# Altium footprint library 2171790001.PcbLib: 1 footprints
Each footprint in its own frame and in the unit in brackets; x right, y up, seen from the top. Pads: shape width x height; smd on the part's side, far side on the other; paste and mask are expansions set on the pad; w line width, h text height; cw(c..) or ccw(c..) is an arc to the next point about the centre after c.
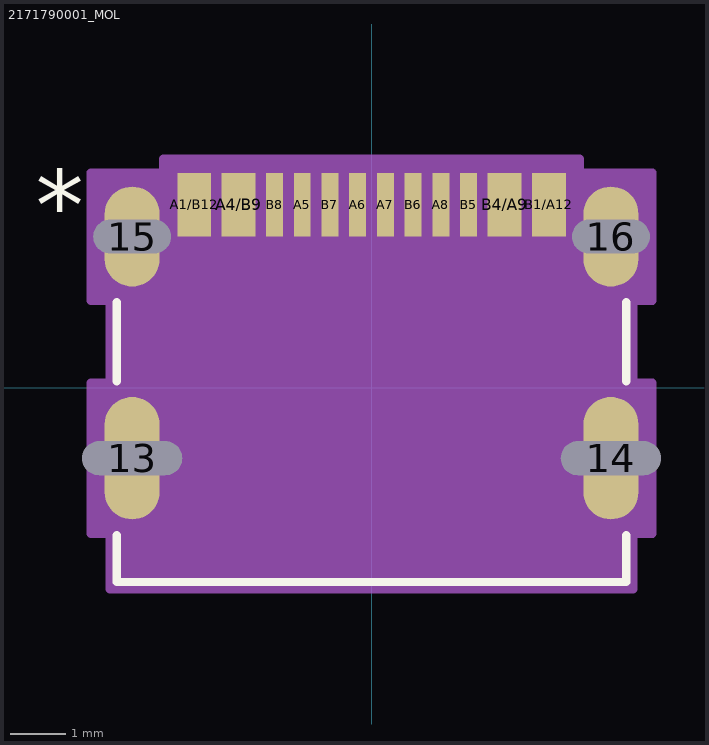
[diagram p0: the footprint, top view; thin cyan lines are the x and y axes]

## 2171790001_MOL [mil]
pads (16):
  oval 39x87 on Top hole 24 slot 71 at 0 deg paste-43.5 mask-43.5: 13(-170.08,-50.07) 14(170.08,-50.07)
  oval 39x71 on Top hole 24 slot 55 at 0 deg paste-35.5 mask-35.5: 15(-170.08,107.41) 16(170.08,107.41)
  rect 24x45 smd paste+0 mask+0: A1/B12(-125.98,130.05) A4/B9(-94.49,130.05) B1/A12(125.98,130.05) B4/A9(94.49,130.05)
  rect 12x45 smd paste+0 mask+0: A5(-49.21,130.05) A6(-9.84,130.05) A7(9.84,130.05) A8(49.21,130.05) B5(68.9,130.05) B6(29.53,130.05) B7(-29.53,130.05) B8(-68.9,130.05)
Top Overlay:
  lines w6: -181,-104.79 -181,-138 181,-138 181,-104.79 ; -181,4.65 -181,60.69 ; 181,4.65 181,60.69
  text "*" at -238.48,105.05 h50
Mechanical 13:
  lines w1: -176,-133 -176,133 176,133 176,-133 -176,-133
  text "*" at -238.48,105.05 h50
Mechanical 15:
  region: -186,-103.57 -186,-143 186,-143 186,-103.57 199.58,-103.57 199.58,3.43 186,3.43 186,61.91 199.58,61.91 199.58,152.91 147.98,152.91 147.98,162.55 -147.98,162.55 -147.98,152.91 -199.58,152.91 -199.58,61.91 -186,61.91 -186,3.43 -199.58,3.43 -199.58,-103.57
  lines w6: -199.58,-103.57 -199.58,3.43 -186,3.43 -186,61.91 -199.58,61.91 -199.58,152.91 -147.98,152.91 -147.98,162.55 147.98,162.55 147.98,152.91 199.58,152.91 199.58,61.91 186,61.91 186,3.43 199.58,3.43 199.58,-103.57 186,-103.57 186,-143 -186,-143 -186,-103.57 -199.58,-103.57
3D body "2171790001.stp": height 124.95, standoff -34.95, extent -175.98,-122.87 175.99,142.88